# Altium footprint library SRR1208.PcbLib: 1 footprints
Each footprint in its own frame and in the unit in brackets; x right, y up, seen from the top. Pads: shape width x height; smd on the part's side, far side on the other; paste and mask are expansions set on the pad; w line width, h text height; cw(c..) or ccw(c..) is an arc to the next point about the centre after c.
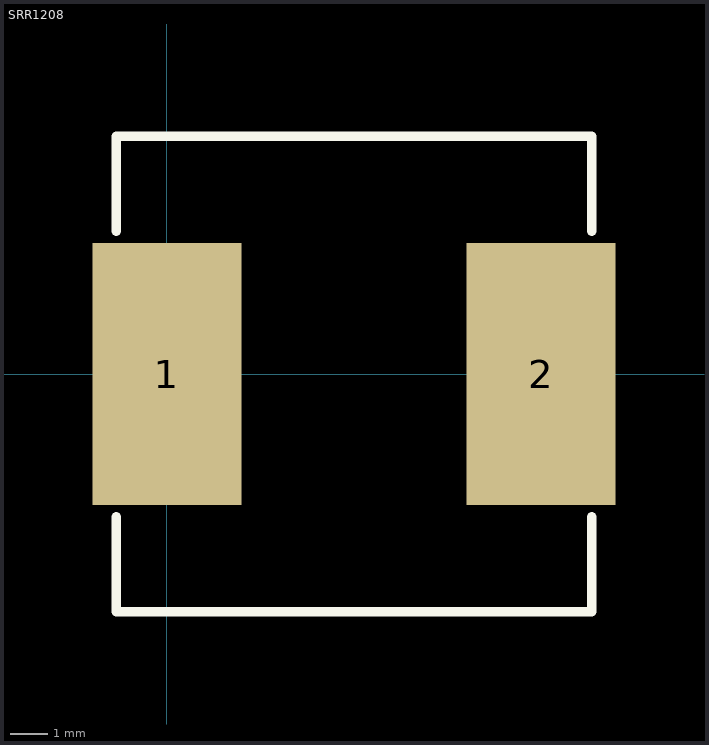
[diagram p0: the footprint, top view; thin cyan lines are the x and y axes]

## SRR1208 [mil]
pads (2):
  rect 157x276 smd: 1(0,0) 2(393.7,0)
Top Overlay:
  lines w10: -53.15,-150 -53.15,-250 446.85,-250 446.85,-150 ; -53.15,150 -53.15,250 446.85,250 446.85,150